# Altium footprint library Con DIN 41612.PcbLib: 47 footprints (part 2 of 3)
Each footprint in its own frame and in the unit in brackets; x right, y up, seen from the top. Pads: shape width x height; smd on the part's side, far side on the other; paste and mask are expansions set on the pad; w line width, h text height; cw(c..) or ccw(c..) is an arc to the next point about the centre after c.
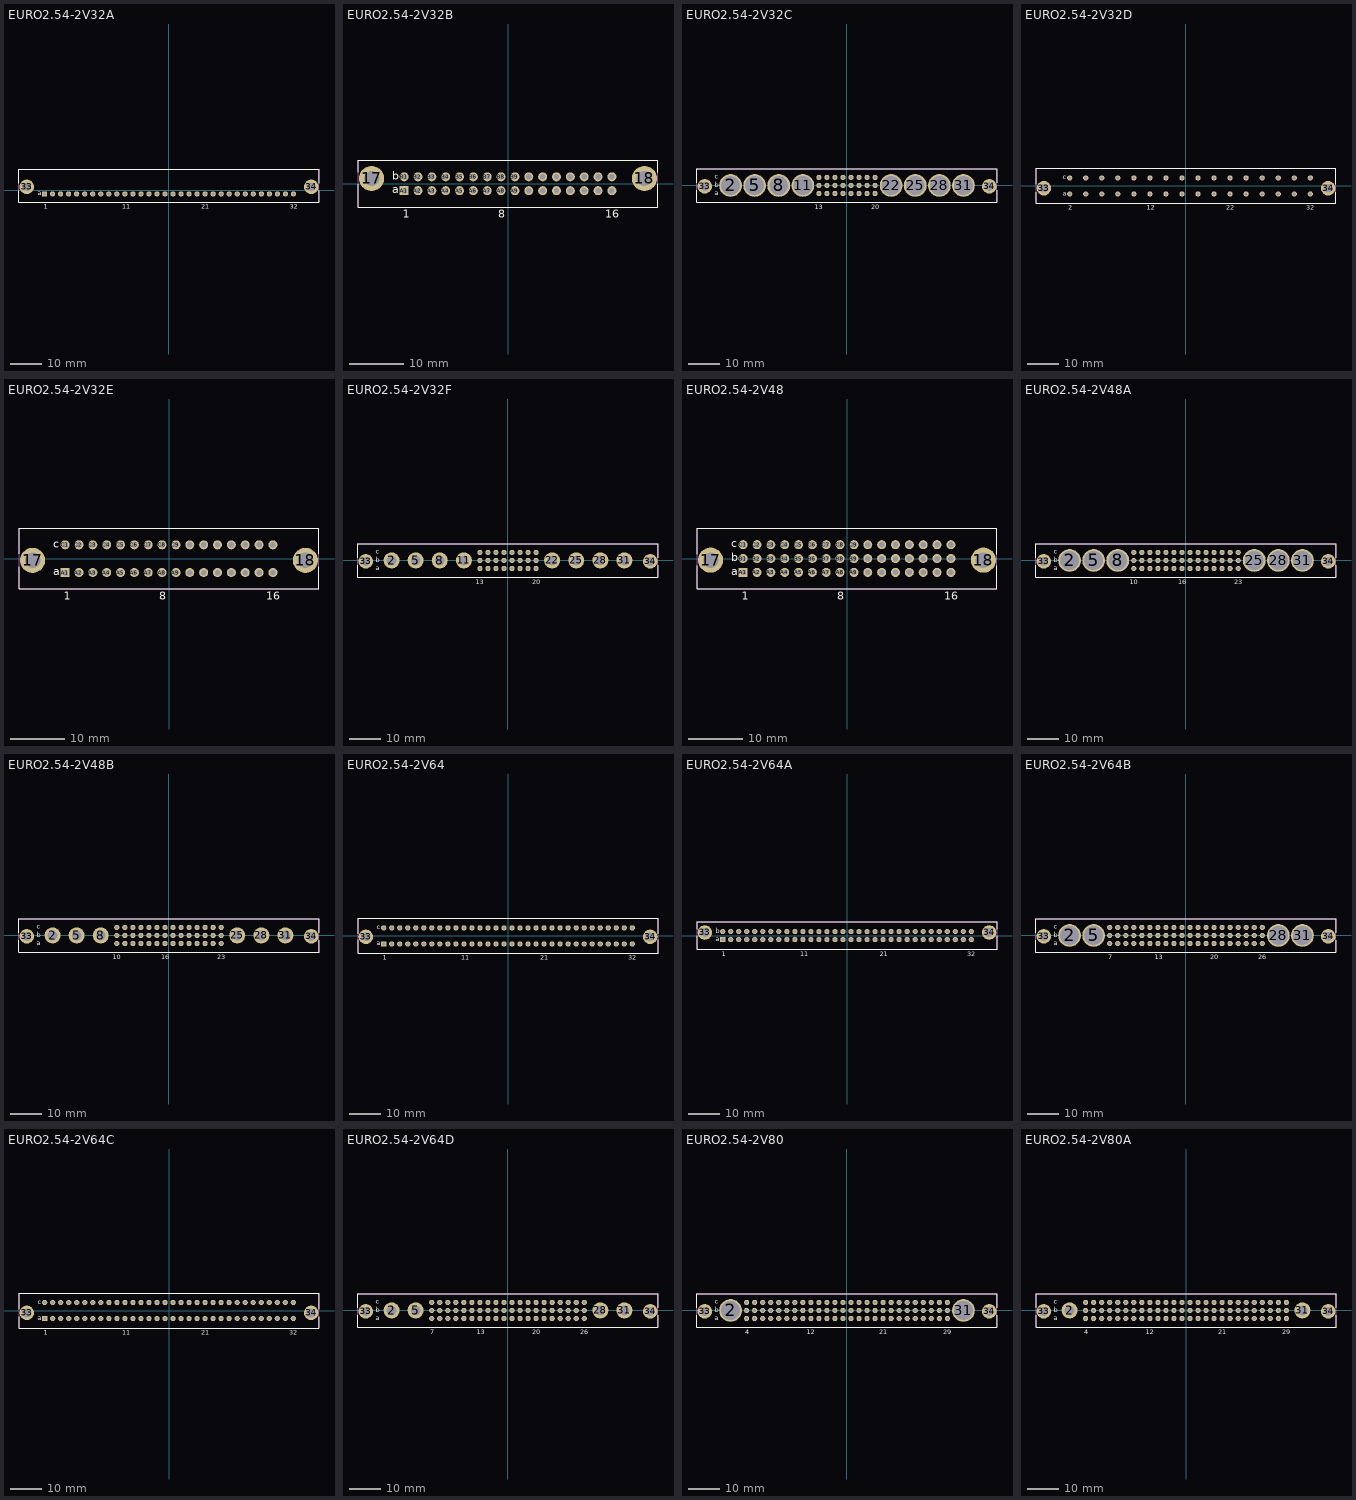
[diagram p1: the footprints below, top view; thin cyan lines are the x and y axes]

## EURO2.54-2V32A [mm] "Connector; DIN 41612, Type C, Thru-Hole; Row a, 32 Position; Vertical"
height 11.6
pads (34):
  round 4.6 hole 2.8: 33(-45,1.12) 34(45,1.12)
  rect 1.65x1.65 hole 1: A1(-39.37,-1.12)
  round 1.65 hole 1: A2(-36.83,-1.12) A3(-34.29,-1.12) A4(-31.75,-1.12) A5(-29.21,-1.12) A6(-26.67,-1.12) A7(-24.13,-1.12) A8(-21.59,-1.12) A9(-19.05,-1.12) A10(-16.51,-1.12) A11(-13.97,-1.12) A12(-11.43,-1.12) A13(-8.89,-1.12) A14(-6.35,-1.12) A15(-3.81,-1.12) A16(-1.27,-1.12) A17(1.27,-1.12) A18(3.81,-1.12) A19(6.35,-1.12) A20(8.89,-1.12) A21(11.43,-1.12) A22(13.97,-1.12) A23(16.51,-1.12) A24(19.05,-1.12) A25(21.59,-1.12) A26(24.13,-1.12) A27(26.67,-1.12) A28(29.21,-1.12) A29(31.75,-1.12) A30(34.29,-1.12) A31(36.83,-1.12) A32(39.37,-1.12)
Top Overlay:
  lines w0.2: -47.45,-0.08 -47.45,-3.83 47.45,-3.83 47.45,-0.08 ; -47.45,2.32 -47.45,6.67 47.45,6.67 47.45,2.32
  text "21" at 10.18,-5.81 h1.5
  text "11" at -14.82,-5.81 h1.5
  text "32" at 38.12,-5.81 h1.5
  text "a" at -41.58,-1.62 h1.5
  text "1" at -39.62,-5.81 h1.5
Mechanical 13:
  lines w0.1: -47.45,-3.83 -47.45,6.67 47.45,6.67 47.45,-3.83 -47.45,-3.83
3D body: height 11.6, standoff 0, extent -47.45,-3.83 47.45,6.67

## EURO2.54-2V32B [mm] "Connector; DIN 41612, Type 2B, Thru-Hole; Rows a+b, 32 Position; Vertical"
height 11.6
pads (34):
  round 4.6 hole 2.8: 17(-25,0.97) 18(25,0.97)
  rect 1.65x1.65 hole 1: A1(-19.05,-1.27)
  round 1.65 hole 1: A2(-16.51,-1.27) A3(-13.97,-1.27) A4(-11.43,-1.27) A5(-8.89,-1.27) A6(-6.35,-1.27) A7(-3.81,-1.27) A8(-1.27,-1.27) A9(1.27,-1.27) A10(3.81,-1.27) A11(6.35,-1.27) A12(8.89,-1.27) A13(11.43,-1.27) A14(13.97,-1.27) A15(16.51,-1.27) A16(19.05,-1.27) B1(-19.05,1.27) B2(-16.51,1.27) B3(-13.97,1.27) B4(-11.43,1.27) B5(-8.89,1.27) B6(-6.35,1.27) B7(-3.81,1.27) B8(-1.27,1.27) B9(1.27,1.27) B10(3.81,1.27) B11(6.35,1.27) B12(8.89,1.27) B13(11.43,1.27) B14(13.97,1.27) B15(16.51,1.27) B16(19.05,1.27)
Top Overlay:
  lines w0.2: -27.5,-0.13 -27.5,-4.3 27.5,-4.3 27.5,-0.13 ; -27.5,2.07 -27.5,4.3 27.5,4.3 27.5,2.07
  text "16" at 17.8,-6.23 h1.5
  text "8" at -1.77,-6.23 h1.5
  text "b" at -21.26,0.77 h1.5
  text "a" at -21.26,-1.77 h1.5
  text "1" at -19.3,-6.23 h1.5
Mechanical 13:
  lines w0.1: -27.5,-4.3 -27.5,4.3 27.5,4.3 27.5,-4.3 -27.5,-4.3
3D body: height 11.6, standoff 0, extent -27.5,-4.3 27.5,4.3

## EURO2.54-2V32C [mm] "Connector; DIN 41612, Type M, Thru-Hole; Rows a+b+c, 24 Position; Vertical"
height 12.6
pads (34):
  round 7.2 hole 6: 2(-36.83,0) 5(-29.21,0) 8(-21.59,0) 11(-13.97,0) 22(13.97,0) 25(21.59,0) 28(29.21,0) 31(36.83,0)
  round 4.6 hole 2.8: 33(-45,-0.3) 34(45,-0.3)
  round 1.65 hole 1: A13(-8.89,-2.54) A14(-6.35,-2.54) A15(-3.81,-2.54) A16(-1.27,-2.54) A17(1.27,-2.54) A18(3.81,-2.54) A19(6.35,-2.54) A20(8.89,-2.54) B13(-8.89,0) B14(-6.35,0) B15(-3.81,0) B16(-1.27,0) B17(1.27,0) B18(3.81,0) B19(6.35,0) B20(8.89,0) C13(-8.89,2.54) C14(-6.35,2.54) C15(-3.81,2.54) C16(-1.27,2.54) C17(1.27,2.54) C18(3.81,2.54) C19(6.35,2.54) C20(8.89,2.54)
Top Overlay:
  lines w0.2: -47.45,-1.5 -47.45,-5.25 47.45,-5.25 47.45,-1.5 ; -47.45,0.9 -47.45,5.25 47.45,5.25 47.45,0.9
  text "20" at 7.64,-7.5 h1.5
  text "13" at -10.14,-7.5 h1.5
  text "c" at -41.88,2.04 h1.5
  text "b" at -41.88,-0.5 h1.5
  text "a" at -41.91,-3.04 h1.5
Mechanical 13:
  lines w0.1: -47.45,-5.25 -47.45,5.25 47.45,5.25 47.45,-5.25 -47.45,-5.25
3D body: height 12.6, standoff 0, extent -47.45,-5.25 47.45,5.25

## EURO2.54-2V32D [mm] "Connector; DIN 41612, Type R, Thru-Hole; Rows a+c, 32 Position; Vertical"
height 11.6
pads (34):
  round 4.6 hole 2.8: 33(-45,-0.73) 34(45,-0.73)
  round 1.65 hole 1: A2(-36.83,-2.54) A4(-31.75,-2.54) A6(-26.67,-2.54) A8(-21.59,-2.54) A10(-16.51,-2.54) A12(-11.43,-2.54) A14(-6.35,-2.54) A16(-1.27,-2.54) A18(3.81,-2.54) A20(8.89,-2.54) A22(13.97,-2.54) A24(19.05,-2.54) A26(24.13,-2.54) A28(29.21,-2.54) A30(34.29,-2.54) A32(39.37,-2.54) C2(-36.83,2.54) C4(-31.75,2.54) C6(-26.67,2.54) C8(-21.59,2.54) C10(-16.51,2.54) C12(-11.43,2.54) C14(-6.35,2.54) C16(-1.27,2.54) C18(3.81,2.54) C20(8.89,2.54) C22(13.97,2.54) C24(19.05,2.54) C26(24.13,2.54) C28(29.21,2.54) C30(34.29,2.54) C32(39.37,2.54)
Top Overlay:
  lines w0.2: -47.5,-1.93 -47.5,-5.55 47.5,-5.55 47.5,-1.93 ; -47.5,0.47 -47.5,5.55 47.5,5.55 47.5,0.47
  text "22" at 12.72,-7.5 h1.5
  text "12" at -12.43,-7.5 h1.5
  text "32" at 38.12,-7.5 h1.5
  text "c" at -39.04,2.04 h1.5
  text "a" at -39.04,-3.04 h1.5
  text "2" at -37.33,-7.5 h1.5
Mechanical 13:
  lines w0.1: -47.5,-5.55 -47.5,5.55 47.5,5.55 47.5,-5.55 -47.5,-5.55
3D body: height 11.6, standoff 0, extent -47.5,-5.55 47.5,5.55

## EURO2.54-2V32E [mm] "Connector; DIN 41612, Type 2R, Thru-Hole; Rows a+c, 32 Position; Vertical"
height 11.6
pads (34):
  round 4.6 hole 2.8: 17(-25,-0.3) 18(25,-0.3)
  rect 1.65x1.65 hole 1: A1(-19.05,-2.54)
  round 1.65 hole 1: A2(-16.51,-2.54) A3(-13.97,-2.54) A4(-11.43,-2.54) A5(-8.89,-2.54) A6(-6.35,-2.54) A7(-3.81,-2.54) A8(-1.27,-2.54) A9(1.27,-2.54) A10(3.81,-2.54) A11(6.35,-2.54) A12(8.89,-2.54) A13(11.43,-2.54) A14(13.97,-2.54) A15(16.51,-2.54) A16(19.05,-2.54) C1(-19.05,2.54) C2(-16.51,2.54) C3(-13.97,2.54) C4(-11.43,2.54) C5(-8.89,2.54) C6(-6.35,2.54) C7(-3.81,2.54) C8(-1.27,2.54) C9(1.27,2.54) C10(3.81,2.54) C11(6.35,2.54) C12(8.89,2.54) C13(11.43,2.54) C14(13.97,2.54) C15(16.51,2.54) C16(19.05,2.54)
Top Overlay:
  lines w0.2: -27.5,-1.5 -27.5,-5.55 27.5,-5.55 27.5,-1.5 ; -27.5,0.9 -27.5,5.55 27.5,5.55 27.5,0.9
  text "16" at 17.8,-7.5 h1.5
  text "8" at -1.77,-7.5 h1.5
  text "c" at -21.26,2.04 h1.5
  text "a" at -21.26,-3.04 h1.5
  text "1" at -19.3,-7.5 h1.5
Mechanical 13:
  lines w0.1: -27.5,-5.55 -27.5,5.55 27.5,5.55 27.5,-5.55 -27.5,-5.55
3D body: height 11.6, standoff 0, extent -27.5,-5.55 27.5,5.55

## EURO2.54-2V32F [mm] "Connector; DIN 41612, Type M-Flat, Thru-Hole; Rows a+b+c, 24 Position; Vertical"
height 12.6
pads (34):
  round 5.1 hole 3.1: 2(-36.83,0) 5(-29.21,0) 8(-21.59,0) 11(-13.97,0) 22(13.97,0) 25(21.59,0) 28(29.21,0) 31(36.83,0)
  round 4.6 hole 2.8: 33(-45,-0.3) 34(45,-0.3)
  round 1.65 hole 1: A13(-8.89,-2.54) A14(-6.35,-2.54) A15(-3.81,-2.54) A16(-1.27,-2.54) A17(1.27,-2.54) A18(3.81,-2.54) A19(6.35,-2.54) A20(8.89,-2.54) B13(-8.89,0) B14(-6.35,0) B15(-3.81,0) B16(-1.27,0) B17(1.27,0) B18(3.81,0) B19(6.35,0) B20(8.89,0) C13(-8.89,2.54) C14(-6.35,2.54) C15(-3.81,2.54) C16(-1.27,2.54) C17(1.27,2.54) C18(3.81,2.54) C19(6.35,2.54) C20(8.89,2.54)
Top Overlay:
  lines w0.2: -47.45,-1.5 -47.45,-5.25 47.45,-5.25 47.45,-1.5 ; -47.45,0.9 -47.45,5.25 47.45,5.25 47.45,0.9
  text "20" at 7.64,-7.5 h1.5
  text "13" at -10.14,-7.5 h1.5
  text "c" at -41.88,2.04 h1.5
  text "b" at -41.88,-0.5 h1.5
  text "a" at -41.91,-3.04 h1.5
Mechanical 13:
  lines w0.1: -47.45,-5.25 -47.45,5.25 47.45,5.25 47.45,-5.25 -47.45,-5.25
3D body: height 12.6, standoff 0, extent -47.45,-5.25 47.45,5.25

## EURO2.54-2V48 [mm] "Connector; DIN 41612, Type 2C, Thru-Hole; Rows a+b+c, 48 Position; Vertical"
height 11.6
pads (50):
  round 4.6 hole 2.8: 17(-25,-0.3) 18(25,-0.3)
  rect 1.65x1.65 hole 1: A1(-19.05,-2.54)
  round 1.65 hole 1: A2(-16.51,-2.54) A3(-13.97,-2.54) A4(-11.43,-2.54) A5(-8.89,-2.54) A6(-6.35,-2.54) A7(-3.81,-2.54) A8(-1.27,-2.54) A9(1.27,-2.54) A10(3.81,-2.54) A11(6.35,-2.54) A12(8.89,-2.54) A13(11.43,-2.54) A14(13.97,-2.54) A15(16.51,-2.54) A16(19.05,-2.54) B1(-19.05,0) B2(-16.51,0) B3(-13.97,0) B4(-11.43,0) B5(-8.89,0) B6(-6.35,0) B7(-3.81,0) B8(-1.27,0) B9(1.27,0) B10(3.81,0) B11(6.35,0) B12(8.89,0) B13(11.43,0) B14(13.97,0) B15(16.51,0) B16(19.05,0) C1(-19.05,2.54) C2(-16.51,2.54) C3(-13.97,2.54) C4(-11.43,2.54) C5(-8.89,2.54) C6(-6.35,2.54) C7(-3.81,2.54) C8(-1.27,2.54) C9(1.27,2.54) C10(3.81,2.54) C11(6.35,2.54) C12(8.89,2.54) C13(11.43,2.54) C14(13.97,2.54) C15(16.51,2.54) C16(19.05,2.54)
Top Overlay:
  lines w0.2: -27.5,-1.35 -27.5,-5.55 27.5,-5.55 27.5,-1.35 ; -27.5,0.75 -27.5,5.55 27.5,5.55 27.5,0.75
  text "1" at -19.3,-7.55 h1.5
  text "a" at -21.26,-3.04 h1.5
  text "b" at -21.26,-0.5 h1.5
  text "c" at -21.26,2.04 h1.5
  text "8" at -1.77,-7.55 h1.5
  text "16" at 17.8,-7.55 h1.5
Mechanical 13:
  lines w0.1: -27.5,-5.55 -27.5,5.55 27.5,5.55 27.5,-5.55 -27.5,-5.55
3D body: height 11.6, standoff 0, extent -27.5,-5.55 27.5,5.55

## EURO2.54-2V48A [mm] "Connector; DIN 41612, Type M, Thru-Hole; Rows a+b+c, 42 Position; Vertical"
height 12.6
pads (50):
  round 7.2 hole 6: 2(-36.83,0) 5(-29.21,0) 8(-21.59,0) 25(21.59,0) 28(29.21,0) 31(36.83,0)
  round 4.6 hole 2.8: 33(-45,-0.3) 34(45,-0.3)
  round 1.65 hole 1: A10(-16.51,-2.54) A11(-13.97,-2.54) A12(-11.43,-2.54) A13(-8.89,-2.54) A14(-6.35,-2.54) A15(-3.81,-2.54) A16(-1.27,-2.54) A17(1.27,-2.54) A18(3.81,-2.54) A19(6.35,-2.54) A20(8.89,-2.54) A21(11.43,-2.54) A22(13.97,-2.54) A23(16.51,-2.54) B10(-16.51,0) B11(-13.97,0) B12(-11.43,0) B13(-8.89,0) B14(-6.35,0) B15(-3.81,0) B16(-1.27,0) B17(1.27,0) B18(3.81,0) B19(6.35,0) B20(8.89,0) B21(11.43,0) B22(13.97,0) B23(16.51,0) C10(-16.51,2.54) C11(-13.97,2.54) C12(-11.43,2.54) C13(-8.89,2.54) C14(-6.35,2.54) C15(-3.81,2.54) C16(-1.27,2.54) C17(1.27,2.54) C18(3.81,2.54) C19(6.35,2.54) C20(8.89,2.54) C21(11.43,2.54) C22(13.97,2.54) C23(16.51,2.54)
Top Overlay:
  lines w0.2: -47.45,-1.5 -47.45,-5.25 47.45,-5.25 47.45,-1.5 ; -47.45,0.9 -47.45,5.25 47.45,5.25 47.45,0.9
  text "23" at 15.26,-7.5 h1.5
  text "16" at -2.52,-7.5 h1.5
  text "c" at -41.88,2.04 h1.5
  text "b" at -41.88,-0.5 h1.5
  text "a" at -41.88,-3.04 h1.5
  text "10" at -17.76,-7.5 h1.5
Mechanical 13:
  lines w0.1: -47.45,-5.25 -47.45,5.25 47.45,5.25 47.45,-5.25 -47.45,-5.25
3D body: height 12.6, standoff 0, extent -47.45,-5.25 47.45,5.25

## EURO2.54-2V48B [mm] "Connector; DIN 41612, Type M-Flat, Thru-Hole; Rows a+b+c, 42 Position; Vertical"
height 12.6
pads (50):
  round 5.1 hole 3.1: 2(-36.83,0) 5(-29.21,0) 8(-21.59,0) 25(21.59,0) 28(29.21,0) 31(36.83,0)
  round 4.6 hole 2.8: 33(-45,-0.3) 34(45,-0.3)
  round 1.65 hole 1: A10(-16.51,-2.54) A11(-13.97,-2.54) A12(-11.43,-2.54) A13(-8.89,-2.54) A14(-6.35,-2.54) A15(-3.81,-2.54) A16(-1.27,-2.54) A17(1.27,-2.54) A18(3.81,-2.54) A19(6.35,-2.54) A20(8.89,-2.54) A21(11.43,-2.54) A22(13.97,-2.54) A23(16.51,-2.54) B10(-16.51,0) B11(-13.97,0) B12(-11.43,0) B13(-8.89,0) B14(-6.35,0) B15(-3.81,0) B16(-1.27,0) B17(1.27,0) B18(3.81,0) B19(6.35,0) B20(8.89,0) B21(11.43,0) B22(13.97,0) B23(16.51,0) C10(-16.51,2.54) C11(-13.97,2.54) C12(-11.43,2.54) C13(-8.89,2.54) C14(-6.35,2.54) C15(-3.81,2.54) C16(-1.27,2.54) C17(1.27,2.54) C18(3.81,2.54) C19(6.35,2.54) C20(8.89,2.54) C21(11.43,2.54) C22(13.97,2.54) C23(16.51,2.54)
Top Overlay:
  lines w0.2: -47.45,-1.5 -47.45,-5.25 47.45,-5.25 47.45,-1.5 ; -47.45,0.9 -47.45,5.25 47.45,5.25 47.45,0.9
  text "10" at -17.76,-7.5 h1.5
  text "a" at -41.88,-3.04 h1.5
  text "b" at -41.88,-0.5 h1.5
  text "c" at -41.88,2.04 h1.5
  text "16" at -2.52,-7.5 h1.5
  text "23" at 15.26,-7.5 h1.5
Mechanical 13:
  lines w0.1: -47.45,-5.25 -47.45,5.25 47.45,5.25 47.45,-5.25 -47.45,-5.25
3D body: height 12.6, standoff 0, extent -47.45,-5.25 47.45,5.25

## EURO2.54-2V64 [mm] "Connector; DIN 41612, Type C, Thru-Hole; Rows a+c, 64 Position; Vertical"
height 11.6
pads (66):
  round 4.6 hole 2.8: 33(-45,-0.3) 34(45,-0.3)
  rect 1.65x1.65 hole 1: A1(-39.37,-2.54)
  round 1.65 hole 1: A2(-36.83,-2.54) A3(-34.29,-2.54) A4(-31.75,-2.54) A5(-29.21,-2.54) A6(-26.67,-2.54) A7(-24.13,-2.54) A8(-21.59,-2.54) A9(-19.05,-2.54) A10(-16.51,-2.54) A11(-13.97,-2.54) A12(-11.43,-2.54) A13(-8.89,-2.54) A14(-6.35,-2.54) A15(-3.81,-2.54) A16(-1.27,-2.54) A17(1.27,-2.54) A18(3.81,-2.54) A19(6.35,-2.54) A20(8.89,-2.54) A21(11.43,-2.54) A22(13.97,-2.54) A23(16.51,-2.54) A24(19.05,-2.54) A25(21.59,-2.54) A26(24.13,-2.54) A27(26.67,-2.54) A28(29.21,-2.54) A29(31.75,-2.54) A30(34.29,-2.54) A31(36.83,-2.54) A32(39.37,-2.54) C1(-39.37,2.54) C2(-36.83,2.54) C3(-34.29,2.54) C4(-31.75,2.54) C5(-29.21,2.54) C6(-26.67,2.54) C7(-24.13,2.54) C8(-21.59,2.54) C9(-19.05,2.54) C10(-16.51,2.54) C11(-13.97,2.54) C12(-11.43,2.54) C13(-8.89,2.54) C14(-6.35,2.54) C15(-3.81,2.54) C16(-1.27,2.54) C17(1.27,2.54) C18(3.81,2.54) C19(6.35,2.54) C20(8.89,2.54) C21(11.43,2.54) C22(13.97,2.54) C23(16.51,2.54) C24(19.05,2.54) C25(21.59,2.54) C26(24.13,2.54) C27(26.67,2.54) C28(29.21,2.54) C29(31.75,2.54) C30(34.29,2.54) C31(36.83,2.54) C32(39.37,2.54)
Top Overlay:
  lines w0.2: -47.5,-1.3 -47.5,-5.55 47.5,-5.55 47.5,-1.3 ; -47.5,0.7 -47.5,5.55 47.5,5.55 47.5,0.7
  text "21" at 10.18,-7.525 h1.5
  text "11" at -14.82,-7.525 h1.5
  text "32" at 38.12,-7.525 h1.5
  text "c" at -41.58,2.04 h1.5
  text "a" at -41.58,-3.04 h1.5
  text "1" at -39.62,-7.525 h1.5
Mechanical 13:
  lines w0.1: -47.5,-5.55 -47.5,5.55 47.5,5.55 47.5,-5.55 -47.5,-5.55
3D body: height 11.6, standoff 0, extent -47.5,-5.55 47.5,5.55

## EURO2.54-2V64A [mm] "Connector; DIN 41612, Type B, Thru-Hole; Rows a+b, 64 Position; Vertical"
height 11.6
pads (66):
  round 4.6 hole 2.8: 33(-45,0.97) 34(45,0.97)
  rect 1.65x1.65 hole 1: A1(-39.37,-1.27)
  round 1.65 hole 1: A2(-36.83,-1.27) A3(-34.29,-1.27) A4(-31.75,-1.27) A5(-29.21,-1.27) A6(-26.67,-1.27) A7(-24.13,-1.27) A8(-21.59,-1.27) A9(-19.05,-1.27) A10(-16.51,-1.27) A11(-13.97,-1.27) A12(-11.43,-1.27) A13(-8.89,-1.27) A14(-6.35,-1.27) A15(-3.81,-1.27) A16(-1.27,-1.27) A17(1.27,-1.27) A18(3.81,-1.27) A19(6.35,-1.27) A20(8.89,-1.27) A21(11.43,-1.27) A22(13.97,-1.27) A23(16.51,-1.27) A24(19.05,-1.27) A25(21.59,-1.27) A26(24.13,-1.27) A27(26.67,-1.27) A28(29.21,-1.27) A29(31.75,-1.27) A30(34.29,-1.27) A31(36.83,-1.27) A32(39.37,-1.27) B1(-39.37,1.27) B2(-36.83,1.27) B3(-34.29,1.27) B4(-31.75,1.27) B5(-29.21,1.27) B6(-26.67,1.27) B7(-24.13,1.27) B8(-21.59,1.27) B9(-19.05,1.27) B10(-16.51,1.27) B11(-13.97,1.27) B12(-11.43,1.27) B13(-8.89,1.27) B14(-6.35,1.27) B15(-3.81,1.27) B16(-1.27,1.27) B17(1.27,1.27) B18(3.81,1.27) B19(6.35,1.27) B20(8.89,1.27) B21(11.43,1.27) B22(13.97,1.27) B23(16.51,1.27) B24(19.05,1.27) B25(21.59,1.27) B26(24.13,1.27) B27(26.67,1.27) B28(29.21,1.27) B29(31.75,1.27) B30(34.29,1.27) B31(36.83,1.27) B32(39.37,1.27)
Top Overlay:
  lines w0.2: -47.5,-0.13 -47.5,-4.3 47.5,-4.3 47.5,-0.13 ; -47.5,2.07 -47.5,4.3 47.5,4.3 47.5,2.07
  text "1" at -39.62,-6.48 h1.5
  text "a" at -41.58,-1.77 h1.5
  text "b" at -41.58,0.77 h1.5
  text "32" at 38.12,-6.48 h1.5
  text "11" at -14.82,-6.48 h1.5
  text "21" at 10.43,-6.48 h1.5
Mechanical 13:
  lines w0.1: -47.5,-4.3 -47.5,4.3 47.5,4.3 47.5,-4.3 -47.5,-4.3
3D body: height 11.6, standoff 0, extent -47.5,-4.3 47.5,4.3

## EURO2.54-2V64B [mm] "Connector; DIN 41612, Type M, Thru-Hole; Rows a+b+c, 60 Position; Vertical"
height 12.6
pads (66):
  round 7.2 hole 6: 2(-36.83,0) 5(-29.21,0) 28(29.21,0) 31(36.83,0)
  round 4.6 hole 2.8: 33(-45,-0.3) 34(45,-0.3)
  round 1.65 hole 1: A7(-24.13,-2.54) A8(-21.59,-2.54) A9(-19.05,-2.54) A10(-16.51,-2.54) A11(-13.97,-2.54) A12(-11.43,-2.54) A13(-8.89,-2.54) A14(-6.35,-2.54) A15(-3.81,-2.54) A16(-1.27,-2.54) A17(1.27,-2.54) A18(3.81,-2.54) A19(6.35,-2.54) A20(8.89,-2.54) A21(11.43,-2.54) A22(13.97,-2.54) A23(16.51,-2.54) A24(19.05,-2.54) A25(21.59,-2.54) A26(24.13,-2.54) B7(-24.13,0) B8(-21.59,0) B9(-19.05,0) B10(-16.51,0) B11(-13.97,0) B12(-11.43,0) B13(-8.89,0) B14(-6.35,0) B15(-3.81,0) B16(-1.27,0) B17(1.27,0) B18(3.81,0) B19(6.35,0) B20(8.89,0) B21(11.43,0) B22(13.97,0) B23(16.51,0) B24(19.05,0) B25(21.59,0) B26(24.13,0) C7(-24.13,2.54) C8(-21.59,2.54) C9(-19.05,2.54) C10(-16.51,2.54) C11(-13.97,2.54) C12(-11.43,2.54) C13(-8.89,2.54) C14(-6.35,2.54) C15(-3.81,2.54) C16(-1.27,2.54) C17(1.27,2.54) C18(3.81,2.54) C19(6.35,2.54) C20(8.89,2.54) C21(11.43,2.54) C22(13.97,2.54) C23(16.51,2.54) C24(19.05,2.54) C25(21.59,2.54) C26(24.13,2.54)
Top Overlay:
  lines w0.2: -47.45,-1.5 -47.45,-5.25 47.45,-5.25 47.45,-1.5 ; -47.45,0.9 -47.45,5.25 47.45,5.25 47.45,0.9
  text "7" at -24.63,-7.5 h1.5
  text "a" at -41.88,-3.04 h1.5
  text "b" at -41.88,-0.5 h1.5
  text "c" at -41.88,2.04 h1.5
  text "26" at 22.88,-7.5 h1.5
  text "13" at -9.89,-7.5 h1.5
  text "20" at 7.64,-7.5 h1.5
Mechanical 13:
  lines w0.1: -47.45,-5.25 -47.45,5.25 47.45,5.25 47.45,-5.25 -47.45,-5.25
3D body: height 12.6, standoff 0, extent -47.45,-5.25 47.45,5.25

## EURO2.54-2V64C [mm] "Connector; DIN 41612, Type R, Thru-Hole; Rows a+c, 64 Position; Vertical"
height 11.6
pads (66):
  round 4.6 hole 2.8: 33(-45,-0.73) 34(45,-0.73)
  rect 1.65x1.65 hole 1: A1(-39.37,-2.54)
  round 1.65 hole 1: A2(-36.83,-2.54) A3(-34.29,-2.54) A4(-31.75,-2.54) A5(-29.21,-2.54) A6(-26.67,-2.54) A7(-24.13,-2.54) A8(-21.59,-2.54) A9(-19.05,-2.54) A10(-16.51,-2.54) A11(-13.97,-2.54) A12(-11.43,-2.54) A13(-8.89,-2.54) A14(-6.35,-2.54) A15(-3.81,-2.54) A16(-1.27,-2.54) A17(1.27,-2.54) A18(3.81,-2.54) A19(6.35,-2.54) A20(8.89,-2.54) A21(11.43,-2.54) A22(13.97,-2.54) A23(16.51,-2.54) A24(19.05,-2.54) A25(21.59,-2.54) A26(24.13,-2.54) A27(26.67,-2.54) A28(29.21,-2.54) A29(31.75,-2.54) A30(34.29,-2.54) A31(36.83,-2.54) A32(39.37,-2.54) C1(-39.37,2.54) C2(-36.83,2.54) C3(-34.29,2.54) C4(-31.75,2.54) C5(-29.21,2.54) C6(-26.67,2.54) C7(-24.13,2.54) C8(-21.59,2.54) C9(-19.05,2.54) C10(-16.51,2.54) C11(-13.97,2.54) C12(-11.43,2.54) C13(-8.89,2.54) C14(-6.35,2.54) C15(-3.81,2.54) C16(-1.27,2.54) C17(1.27,2.54) C18(3.81,2.54) C19(6.35,2.54) C20(8.89,2.54) C21(11.43,2.54) C22(13.97,2.54) C23(16.51,2.54) C24(19.05,2.54) C25(21.59,2.54) C26(24.13,2.54) C27(26.67,2.54) C28(29.21,2.54) C29(31.75,2.54) C30(34.29,2.54) C31(36.83,2.54) C32(39.37,2.54)
Top Overlay:
  lines w0.2: -47.5,-1.93 -47.5,-5.55 47.5,-5.55 47.5,-1.93 ; -47.5,0.47 -47.5,5.55 47.5,5.55 47.5,0.47
  text "21" at 10.18,-7.75 h1.5
  text "11" at -14.82,-7.75 h1.5
  text "32" at 38.12,-7.75 h1.5
  text "c" at -41.58,2.04 h1.5
  text "a" at -41.58,-3.04 h1.5
  text "1" at -39.62,-7.75 h1.5
Mechanical 13:
  lines w0.1: -47.5,-5.55 -47.5,5.55 47.5,5.55 47.5,-5.55 -47.5,-5.55
3D body: height 11.6, standoff 0, extent -47.5,-5.55 47.5,5.55

## EURO2.54-2V64D [mm] "Connector; DIN 41612, Type M-Flat, Thru-Hole; Rows a+b+c, 60 Position; Vertical"
height 12.6
pads (66):
  round 5.1 hole 3.1: 2(-36.83,0) 5(-29.21,0) 28(29.21,0) 31(36.83,0)
  round 4.6 hole 2.8: 33(-45,-0.3) 34(45,-0.3)
  round 1.65 hole 1: A7(-24.13,-2.54) A8(-21.59,-2.54) A9(-19.05,-2.54) A10(-16.51,-2.54) A11(-13.97,-2.54) A12(-11.43,-2.54) A13(-8.89,-2.54) A14(-6.35,-2.54) A15(-3.81,-2.54) A16(-1.27,-2.54) A17(1.27,-2.54) A18(3.81,-2.54) A19(6.35,-2.54) A20(8.89,-2.54) A21(11.43,-2.54) A22(13.97,-2.54) A23(16.51,-2.54) A24(19.05,-2.54) A25(21.59,-2.54) A26(24.13,-2.54) B7(-24.13,0) B8(-21.59,0) B9(-19.05,0) B10(-16.51,0) B11(-13.97,0) B12(-11.43,0) B13(-8.89,0) B14(-6.35,0) B15(-3.81,0) B16(-1.27,0) B17(1.27,0) B18(3.81,0) B19(6.35,0) B20(8.89,0) B21(11.43,0) B22(13.97,0) B23(16.51,0) B24(19.05,0) B25(21.59,0) B26(24.13,0) C7(-24.13,2.54) C8(-21.59,2.54) C9(-19.05,2.54) C10(-16.51,2.54) C11(-13.97,2.54) C12(-11.43,2.54) C13(-8.89,2.54) C14(-6.35,2.54) C15(-3.81,2.54) C16(-1.27,2.54) C17(1.27,2.54) C18(3.81,2.54) C19(6.35,2.54) C20(8.89,2.54) C21(11.43,2.54) C22(13.97,2.54) C23(16.51,2.54) C24(19.05,2.54) C25(21.59,2.54) C26(24.13,2.54)
Top Overlay:
  lines w0.2: -47.45,-1.5 -47.45,-5.25 47.45,-5.25 47.45,-1.5 ; -47.45,0.9 -47.45,5.25 47.45,5.25 47.45,0.9
  text "20" at 7.64,-7.5 h1.5
  text "13" at -9.89,-7.5 h1.5
  text "26" at 22.88,-7.5 h1.5
  text "c" at -41.88,2.04 h1.5
  text "b" at -41.88,-0.5 h1.5
  text "a" at -41.88,-3.04 h1.5
  text "7" at -24.63,-7.5 h1.5
Mechanical 13:
  lines w0.1: -47.45,-5.25 -47.45,5.25 47.45,5.25 47.45,-5.25 -47.45,-5.25
3D body: height 12.6, standoff 0, extent -47.45,-5.25 47.45,5.25

## EURO2.54-2V80 [mm] "Connector; DIN 41612, Type M, Thru-Hole; Rows a+b+c, 78 Position; Vertical"
height 12.6
pads (82):
  round 7.2 hole 6: 2(-36.83,0) 31(36.83,0)
  round 4.6 hole 2.8: 33(-45,-0.3) 34(45,-0.3)
  round 1.65 hole 1: A4(-31.75,-2.54) A5(-29.21,-2.54) A6(-26.67,-2.54) A7(-24.13,-2.54) A8(-21.59,-2.54) A9(-19.05,-2.54) A10(-16.51,-2.54) A11(-13.97,-2.54) A12(-11.43,-2.54) A13(-8.89,-2.54) A14(-6.35,-2.54) A15(-3.81,-2.54) A16(-1.27,-2.54) A17(1.27,-2.54) A18(3.81,-2.54) A19(6.35,-2.54) A20(8.89,-2.54) A21(11.43,-2.54) A22(13.97,-2.54) A23(16.51,-2.54) A24(19.05,-2.54) A25(21.59,-2.54) A26(24.13,-2.54) A27(26.67,-2.54) A28(29.21,-2.54) A29(31.75,-2.54) B4(-31.75,0) B5(-29.21,0) B6(-26.67,0) B7(-24.13,0) B8(-21.59,0) B9(-19.05,0) B10(-16.51,0) B11(-13.97,0) B12(-11.43,0) B13(-8.89,0) B14(-6.35,0) B15(-3.81,0) B16(-1.27,0) B17(1.27,0) B18(3.81,0) B19(6.35,0) B20(8.89,0) B21(11.43,0) B22(13.97,0) B23(16.51,0) B24(19.05,0) B25(21.59,0) B26(24.13,0) B27(26.67,0) B28(29.21,0) B29(31.75,0) C4(-31.75,2.54) C5(-29.21,2.54) C6(-26.67,2.54) C7(-24.13,2.54) C8(-21.59,2.54) C9(-19.05,2.54) C10(-16.51,2.54) C11(-13.97,2.54) C12(-11.43,2.54) C13(-8.89,2.54) C14(-6.35,2.54) C15(-3.81,2.54) C16(-1.27,2.54) C17(1.27,2.54) C18(3.81,2.54) C19(6.35,2.54) C20(8.89,2.54) C21(11.43,2.54) C22(13.97,2.54) C23(16.51,2.54) C24(19.05,2.54) C25(21.59,2.54) C26(24.13,2.54) C27(26.67,2.54) C28(29.21,2.54) C29(31.75,2.54)
Top Overlay:
  lines w0.2: -47.45,-1.5 -47.45,-5.25 47.45,-5.25 47.45,-1.5 ; -47.45,0.9 -47.45,5.25 47.45,5.25 47.45,0.9
  text "21" at 10.18,-7.5 h1.5
  text "12" at -12.68,-7.5 h1.5
  text "29" at 30.5,-7.5 h1.5
  text "c" at -41.88,2.04 h1.5
  text "b" at -41.88,-0.5 h1.5
  text "a" at -41.88,-3.04 h1.5
  text "4" at -32.25,-7.5 h1.5
Mechanical 13:
  lines w0.1: -47.45,-5.25 -47.45,5.25 47.45,5.25 47.45,-5.25 -47.45,-5.25
3D body: height 12.6, standoff 0, extent -47.45,-5.25 47.45,5.25

## EURO2.54-2V80A [mm] "Connector; DIN 41612, Type M-Flat, Thru-Hole; Rows a+b+c, 78 Position; Vertical"
height 12.6
pads (82):
  round 5.1 hole 3.1: 2(-36.83,0) 31(36.83,0)
  round 4.6 hole 2.8: 33(-45,-0.3) 34(45,-0.3)
  round 1.65 hole 1: A4(-31.75,-2.54) A5(-29.21,-2.54) A6(-26.67,-2.54) A7(-24.13,-2.54) A8(-21.59,-2.54) A9(-19.05,-2.54) A10(-16.51,-2.54) A11(-13.97,-2.54) A12(-11.43,-2.54) A13(-8.89,-2.54) A14(-6.35,-2.54) A15(-3.81,-2.54) A16(-1.27,-2.54) A17(1.27,-2.54) A18(3.81,-2.54) A19(6.35,-2.54) A20(8.89,-2.54) A21(11.43,-2.54) A22(13.97,-2.54) A23(16.51,-2.54) A24(19.05,-2.54) A25(21.59,-2.54) A26(24.13,-2.54) A27(26.67,-2.54) A28(29.21,-2.54) A29(31.75,-2.54) B4(-31.75,0) B5(-29.21,0) B6(-26.67,0) B7(-24.13,0) B8(-21.59,0) B9(-19.05,0) B10(-16.51,0) B11(-13.97,0) B12(-11.43,0) B13(-8.89,0) B14(-6.35,0) B15(-3.81,0) B16(-1.27,0) B17(1.27,0) B18(3.81,0) B19(6.35,0) B20(8.89,0) B21(11.43,0) B22(13.97,0) B23(16.51,0) B24(19.05,0) B25(21.59,0) B26(24.13,0) B27(26.67,0) B28(29.21,0) B29(31.75,0) C4(-31.75,2.54) C5(-29.21,2.54) C6(-26.67,2.54) C7(-24.13,2.54) C8(-21.59,2.54) C9(-19.05,2.54) C10(-16.51,2.54) C11(-13.97,2.54) C12(-11.43,2.54) C13(-8.89,2.54) C14(-6.35,2.54) C15(-3.81,2.54) C16(-1.27,2.54) C17(1.27,2.54) C18(3.81,2.54) C19(6.35,2.54) C20(8.89,2.54) C21(11.43,2.54) C22(13.97,2.54) C23(16.51,2.54) C24(19.05,2.54) C25(21.59,2.54) C26(24.13,2.54) C27(26.67,2.54) C28(29.21,2.54) C29(31.75,2.54)
Top Overlay:
  lines w0.2: -47.45,-1.5 -47.45,-5.25 47.45,-5.25 47.45,-1.5 ; -47.45,0.9 -47.45,5.25 47.45,5.25 47.45,0.9
  text "4" at -32.25,-7.5 h1.5
  text "a" at -41.88,-3.04 h1.5
  text "b" at -41.88,-0.5 h1.5
  text "c" at -41.88,2.04 h1.5
  text "29" at 30.5,-7.5 h1.5
  text "12" at -12.68,-7.5 h1.5
  text "21" at 10.18,-7.5 h1.5
Mechanical 13:
  lines w0.1: -47.45,-5.25 -47.45,5.25 47.45,5.25 47.45,-5.25 -47.45,-5.25
3D body: height 12.6, standoff 0, extent -47.45,-5.25 47.45,5.25